# EAGLE library part CR-200 (library CRD)
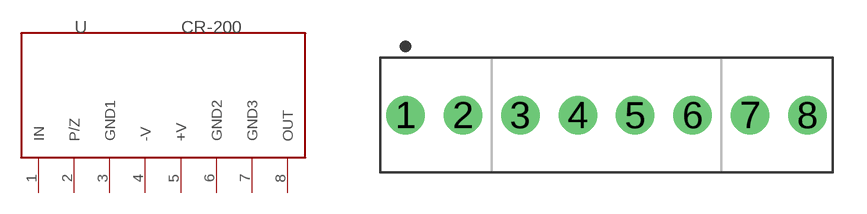
[diagram p3: symbol with the pads of HDRV8W64P254_1X8_1016X508X838B; footprint HDRV8W64P254_1X8_1016X508X838B]

Designator prefix U

## CR-200  [HDRV8W64P254_1X8_1016X508X838B]
1  IN
2  P/Z
3  GND1
4  -V
5  +V
6  GND2
7  GND3
8  OUT

## Footprint HDRV8W64P254_1X8_1016X508X838B (pad centres in mm)
Single-row, 8-pin Pin Header (Male) Straight, 2.54 mm (0.10 in) col pitch, 5.84 mm mating length, 10.16 X 5.08 X 8.38 mm body Single-row (1X8), 8-pin Pin Header (Male) Straight package with 2.54 mm (0.10 in) col pitch, 0.64 mm lead width, 3.00 mm tail length and 5.84 mm mating length with overall size 10.16 X 5.08 X 8.38 mm, pin pattern - clockwise from top left
drill 1.105 pad 1.705: 1 0,0; 2 2.54,0; 3 5.08,0; 4 7.62,0; 5 10.16,0; 6 12.7,0; 7 15.24,0; 8 17.78,0